# Altium footprint library MJWI25-48S12.PcbLib: 1 footprints
Each footprint in its own frame and in the unit in brackets; x right, y up, seen from the top. Pads: shape width x height; smd on the part's side, far side on the other; paste and mask are expansions set on the pad; w line width, h text height; cw(c..) or ccw(c..) is an arc to the next point about the centre after c.
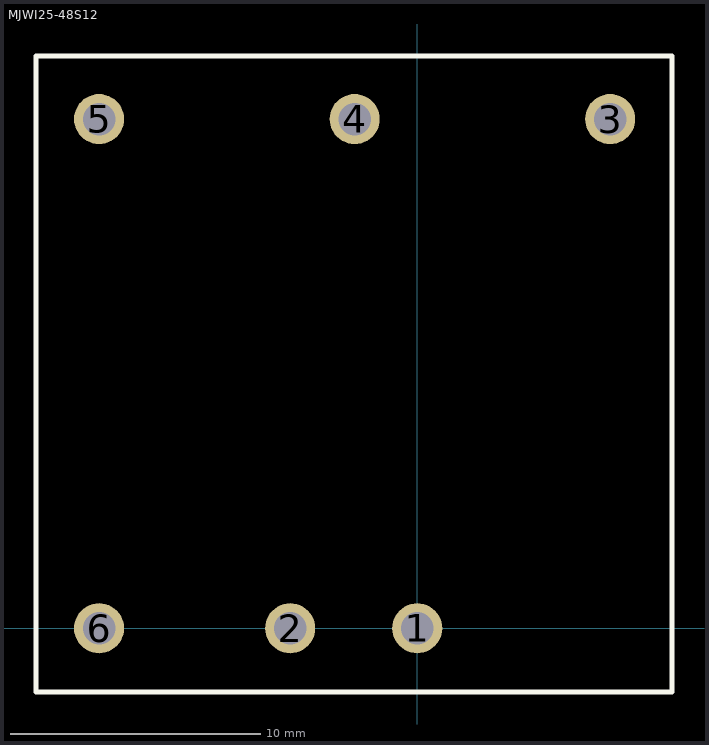
[diagram p0: the footprint, top view; thin cyan lines are the x and y axes]

## MJWI25-48S12 [mm]
pads (6):
  round 2 hole 1.3: 1(0,0) 2(-5.075,0) 3(7.7,20.325) 4(-2.5,20.325) 5(-12.7,20.325) 6(-12.7,0)
Top Overlay:
  lines w0.2: -15.225,-2.55 10.175,-2.55 10.175,22.85 -15.225,22.85 -15.225,-2.55
3D body "MJWI25 3D Mechanical.stp": height 10.2, standoff -5.96, extent -15.225,-2.55 10.175,22.85